# EAGLE library part HUB (library ft4232-usb-hub)
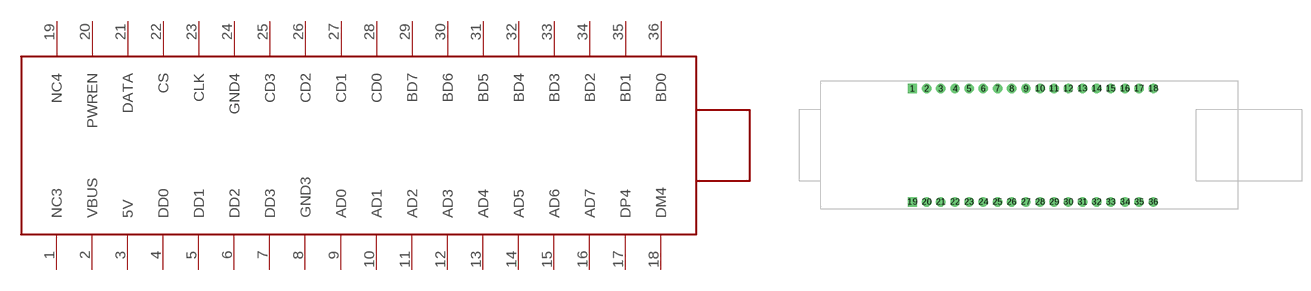
[diagram p0: symbol with the pads of HUB; footprint HUB]

Designator prefix -

## HUB  [HUB]
1  NC3
2  VBUS
3  5V
4  DD0
5  DD1
6  DD2
7  DD3
8  GND3
9  AD0
10  AD1
11  AD2
12  AD3
13  AD4
14  AD5
15  AD6
16  AD7
17  DP4
18  DM4
19  NC4
20  PWREN
21  DATA
22  CS
23  CLK
24  GND4
25  CD3
26  CD2
27  CD1
28  CD0
29  BD7
30  BD6
31  BD5
32  BD4
33  BD3
34  BD2
35  BD1
36  BD0

## Footprint HUB (pad centres in mm)
drill 0.8 pad 1.676 square: 1 -13.97,16.51; 19 -13.97,-3.81
drill 0.8 pad 1.676: 2 -11.43,16.51; 3 -8.89,16.51; 4 -6.35,16.51; 5 -3.81,16.51; 6 -1.27,16.51; 7 1.27,16.51; 8 3.81,16.51; 9 6.35,16.51; 10 8.89,16.51; 11 11.43,16.51; 12 13.97,16.51; 13 16.51,16.51; 14 19.05,16.51; 15 21.59,16.51; 16 24.13,16.51; 17 26.67,16.51; 18 29.21,16.51; 20 -11.43,-3.81; 21 -8.89,-3.81; 22 -6.35,-3.81; 23 -3.81,-3.81; 24 -1.27,-3.81; 25 1.27,-3.81; 26 3.81,-3.81; 27 6.35,-3.81; 28 8.89,-3.81; 29 11.43,-3.81; 30 13.97,-3.81; 31 16.51,-3.81; 32 19.05,-3.81; 33 21.59,-3.81; 34 24.13,-3.81; 35 26.67,-3.81; 36 29.21,-3.81